# Altium footprint library 0201 Kemet Capacitor Footprints.PcbLib: 1 footprints
Each footprint in its own frame and in the unit in brackets; x right, y up, seen from the top. Pads: shape width x height; smd on the part's side, far side on the other; paste and mask are expansions set on the pad; w line width, h text height; cw(c..) or ccw(c..) is an arc to the next point about the centre after c.
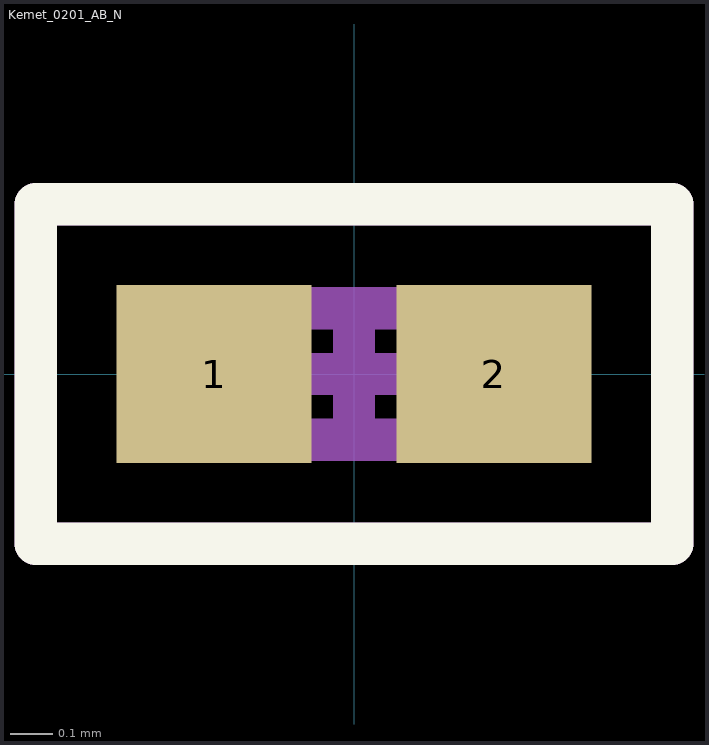
[diagram p0: the footprint, top view; thin cyan lines are the x and y axes]

## Kemet_0201_AB_N [mm] "Chip Capacitor, 2-Leads, Body 0.6x0.3mm, IPC Medium Density"
height 0.33
pads (2):
  rect 0.46x0.42 smd: 1(-0.33,0) 2(0.33,0)
Top Overlay:
  lines w0.1: -0.75,-0.4 0.75,-0.4 0.75,0.4 -0.75,0.4 -0.75,-0.4
Mechanical 13:
  lines w0.1: -0.315,-0.155 -0.315,0.155 0.315,0.155 0.315,-0.155 -0.315,-0.155
Mechanical 15:
  lines w0.1: -0.155,0 0.155,0 ; 0,-0.155 0,0.155 ; -0.75,-0.4 -0.75,0.4 0.75,0.4 0.75,-0.4 -0.75,-0.4
3D body: height 0.33, standoff 0, extent -0.315,-0.155 0.315,0.155